# Altium footprint library ES_Pcb.PcbLib: 383 footprints (part 5 of 24)
Each footprint in its own frame and in the unit in brackets; x right, y up, seen from the top. Pads: shape width x height; smd on the part's side, far side on the other; paste and mask are expansions set on the pad; w line width, h text height; cw(c..) or ccw(c..) is an arc to the next point about the centre after c.
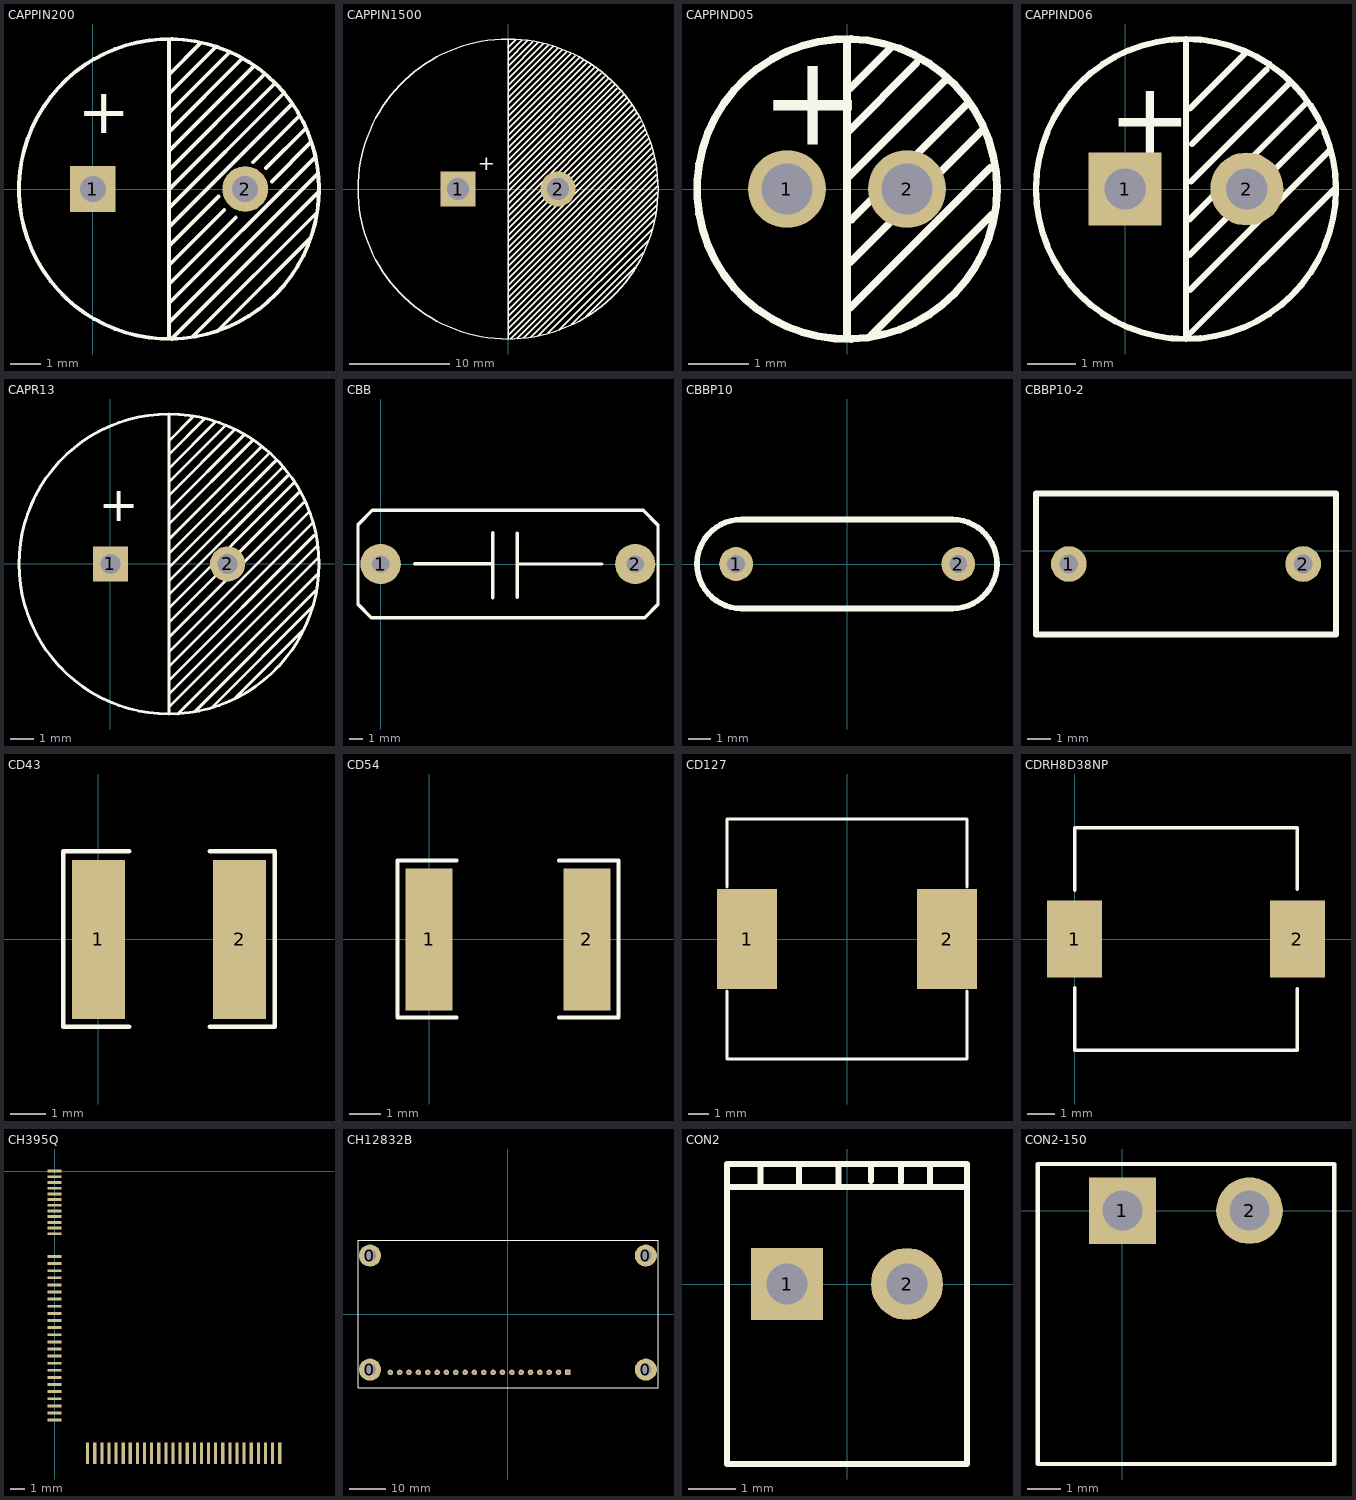
[diagram p4: the footprints below, top view; thin cyan lines are the x and y axes]

## CAPPIN200 [mil]
pads (2):
  rect 60x60 hole 34: 1(0,0)
  round 60 hole 34: 2(200,0)
Top Overlay:
  circle w5: c100,0 r196.85
  lines w5: 100,-175 295.5,20.5 ; 100,-150 291.5,41.5 ; 100,-125 187.5,-37.5 ; 100,-100 172.5,-27.5 ; 100,-75 165,-10 ; 100,-50 261.5,111.5 ; 100,-25 250,125 ; 100,-0.5 239.25,138.75 ; 100,25 225.5,150.5 ; 100,50 211.5,161.5 ; 100,75 195.5,170.5 ; 100,100 179.5,179.5 ; 100,125 161,186 ; 100,150 141.5,191.5 ; 100,195 100,-196 104,-196 296.85,-3.15 296.85,0 ; 131,-194 294.5,-30.5 ; 164,-186 285.5,-64.5 ; 210,35 271,96 ; 227.5,27.5 279.5,79.5 ; 235,10 286.5,61.5
  text "+" at -20,73 h60

## CAPPIN1500 [mm]
pads (2):
  rect 3.5x3.5 hole 2.2: 1(-5,0)
  round 3.5 hole 2.2: 2(5,0)
Top Overlay:
  circle w0.127: c0,0 r15
  lines w0.127: 0,-15 0,15 ; 0,-14.625 14.9,0.275 ; 0,-14 14.962,0.962 ; 0,-13.375 14.825,1.45 ; 0,-12.75 14.8,2.05 ; 0,-12.125 14.713,2.588 ; 0,-11.5 14.6,3.1 ; 0,-10.875 14.5,3.625 ; 0,-10.25 14.375,4.125 ; 0,-9.625 14.225,4.6 ; 0,-9 14.025,5.025 ; 0,-8.375 13.9,5.525 ; 0,-7.75 13.688,5.938 ; 0,-7.125 13.525,6.4 ; 0,-6.5 13.287,6.787 ; 0,-5.875 13.062,7.187 ; 0,-5.25 12.875,7.625 ; 0,-4.625 12.625,8 ; 0,-4 12.412,8.413 ; 0,-3.375 12.075,8.7 ; 0,-2.75 11.837,9.088 ; 0,-2.125 11.575,9.45 ; 0,-1.5 11.25,9.75 ; 0,-0.875 10.943,10.068 ; 0,-0.25 10.667,10.418 ; 0,0.375 10.317,10.692 ; 0,1 10.03,11.03 ; 0,1.6 9.693,11.292 ; 0,2.875 9.03,11.905 ; 0,3.5 8.642,12.143 ; 0,4.125 8.305,12.43 ; 0,4.75 7.88,12.63 ; 0,5.375 7.517,12.892 ; 0,6 7.105,13.105 ; 0,6.625 6.717,13.343 ; 0,7.25 6.28,13.53 ; 0,7.875 5.855,13.73 ; 0,8.5 5.405,13.905 ; 0,9.125 4.968,14.093 ; 0,9.75 4.505,14.255 ; 0,10.375 4.005,14.38 ; 0,11 3.53,14.53 ; 0,11.625 3.03,14.655 ; 0,12.25 2.467,14.717 ; 0,12.875 1.98,14.855 ; 0,13.5 1.397,14.897 ; 0,14.13 0.825,14.955 ; 0.01,2.25 9.347,11.588 ; 0.25,-15 14.925,-0.325 ; 0.875,-14.975 14.925,-0.925 ; 1.55,-14.925 14.863,-1.612 ; 2.25,-14.825 14.788,-2.287 ; 3,-14.7 14.638,-3.062 ; 3.975,-14.45 14.413,-4.012 ; 5.075,-14.125 14.088,-5.112 ; 6.35,-13.575 13.525,-6.4 ; 7.775,-12.8 12.738,-7.838
  text "+" at -3.048,1.854 h1.52

## CAPPIND05 [mm]
pads (2):
  round 1.3 hole 0.85: 1(-1,0) 2(1,0)
Top Overlay:
  circle w0.127: c0,0 r2.5
  lines w0.127: 0,-2.464 0,2.489 ; 0.025,0.203 1.651,1.829 ; 0.025,0.965 1.156,2.095 ; 0.051,-1.981 2.388,0.356 ; 0.051,-1.219 2.235,0.965 ; 0.051,1.676 0.711,2.337 ; 0.076,-0.508 2.019,1.435 ; 0.406,-2.438 2.413,-0.432
  text "+" at -1.448,0.737 h1.52

## CAPPIND06 [mil]
pads (2):
  rect 60x60 hole 34: 1(0,0)
  round 60 hole 34: 2(100,0)
Top Overlay:
  circle w5: c50,0 r123.23
  lines w5: 50,122 50,-122 172.61,0.61 ; 53,-83 167.5,31.5 ; 53,-54 160.5,53.5 ; 53,-25 149,71 ; 53,66 99.5,112.5 ; 54,6 134.5,86.5 ; 55,37 116,98
  text "+" at -14,29 h60

## CAPR13 [mil]
pads (2):
  rect 60x60 hole 34: 1(0,0)
  round 60 hole 34: 2(200,0)
Top Overlay:
  circle w5: c100,0 r255.91
  lines w5: 100,-255.91 100,255.91 ; 100,-244 353.5,9.5 ; 100,-222 352.5,30.5 ; 100,-199 348,49 ; 100,-175 343,68 ; 100,-150 338,88 ; 100,-125 330,105 ; 100,-100 321.5,121.5 ; 100,-75 313,138 ; 100,-52 302.5,150.5 ; 100,-29 293,164 ; 100,-6 282,176 ; 100,18 270.5,188.5 ; 100,42 257.5,199.5 ; 100,68 243,211 ; 100,92 228.5,220.5 ; 100,117 211.5,228.5 ; 100,140 195.5,235.5 ; 100,163 179.5,242.5 ; 100,187 161,248 ; 100,210 141.5,251.5 ; 115,-256 353.5,-17.5 ; 144,-252 350.5,-45.5 ; 174,-244 344.5,-73.5 ; 214,-228 330,-112
  text "+" at -20,73 h60

## CBB [mm]
pads (2):
  round 3 hole 1.3: 1(0,0) 2(19,0)
Top Overlay:
  lines w0.254: 2.55,0.025 8.341,0.025 ; 8.366,-2.54 8.366,2.337 ; 10.195,-2.489 10.195,2.311 ; 10.322,0 16.494,0 ; -1.692,-3.007 -0.699,-4 -0.648,-4 -0.533,-4 6.258,-4 15.529,-4 19.699,-4 20.701,-2.998 20.701,2.896 19.597,4 15.529,4 6.258,4 -0.508,4 -0.613,4 -1.692,2.921 -1.692,-2.997 -1.692,-3.007

## CBBP10 [mm]
pads (2):
  round 1.524 hole 0.8: 1(-5,0) 2(5,0)
Top Overlay:
  lines w0.254: -4.765,-2 cw(c-4.76,0) -4.746,2 4.746,2 cw(c4.742,0) 4.727,-2 ; -4.746,-2 4.746,-2

## CBBP10-2 [mil]
pads (2):
  round 60 hole 31.5: 1(227.15,-22) 2(620.85,-22)
Top Overlay:
  lines w10: 172.03,-140.11 675.97,-140.11 675.97,96.11 172.03,96.11 172.03,-140.11

## CD43 [mm]
pads (2):
  rect 1.5x4.5 smd: 1(0,0) 2(4,0)
Top Overlay:
  lines w0.127: 0.875,-2.475 -1,-2.475 -1,2.5 0.875,2.5 ; 3.15,-2.475 5,-2.475 5,2.5 3.15,2.5

## CD54 [mm]
pads (2):
  rect 1.5x4.5 smd: 1(0,0) 2(5,0)
Top Overlay:
  lines w0.127: 0.875,-2.475 -1,-2.475 -1,2.5 0.875,2.5 ; 4.115,-2.475 5.994,-2.475 5.994,2.5 4.115,2.5

## CD127 [mm]
pads (2):
  rect 3x5 smd: 1(-5,0) 2(5,0)
Top Overlay:
  lines w0.127: -6,-2.6 -6,-6 6,-6 6,-2.6 ; -6,2.6 -6,6 6,6 6,2.6

## CDRH8D38NP [mm]
pads (2):
  rect 2x2.8 smd: 1(0,0) 2(8.1,0)
Top Overlay:
  lines w0.127: 0,-1.778 0,-4.05 8.1,-4.05 8.1,-1.806 ; 0,1.778 0,4.05 8.1,4.05 8.1,1.806

## CH395Q [mm]
pads (64):
  rect 1x0.2 smd: 1(0,0) 2(0,-0.4) 3(0,-0.8) 4(0,-1.2) 5(0,-1.6) 6(0,-2) 7(0,-2.4) 8(0,-2.8) 9(0,-3.2) 10(0,-3.6) 11(0,-4) 12(0,-4.4) 13(0,-6) 14(0,-6.5) 15(0,-7) 16(0,-7.5) 17(0,-8) 18(0,-8.5) 19(0,-9) 20(0,-9.5) 21(0,-10) 22(0,-10.5) 23(0,-11) 24(0,-11.5) 25(0,-12) 26(0,-12.5) 27(0,-13) 28(0,-13.5) 29(0,-14) 30(0,-14.5) 31(0,-15) 32(0,-15.5) 33(0,-16) 34(0,-16.5) 35(0,-17) 36(0,-17.5)
  rect 0.22x1.524 smd: 37(2.323,-19.823) 38(2.823,-19.823) 39(3.323,-19.823) 40(3.823,-19.823) 41(4.323,-19.823) 42(4.823,-19.823) 43(5.323,-19.823) 44(5.823,-19.823) 45(6.323,-19.823) 46(6.823,-19.823) 47(7.323,-19.823) 48(7.823,-19.823) 49(8.323,-19.823) 50(8.823,-19.823) 51(9.323,-19.823) 52(9.823,-19.823) 53(10.323,-19.823) 54(10.823,-19.823) 55(11.323,-19.823) 56(11.823,-19.823) 57(12.323,-19.823) 58(12.823,-19.823) 59(13.323,-19.823) 60(13.823,-19.823) 61(14.323,-19.823) 62(14.823,-19.823) 63(15.323,-19.823) 64(15.823,-19.823)

## CH12832B [mil]
pads (24):
  round 236.22 hole 125.98: 0(-1476.38,-595.24) 0(-1476.38,625.24) 0(1476.38,-595.24) 0(1476.38,625.24)
  rect 60x60 hole 34: 1(641.73,-625.24)
  round 60 hole 34: 2(541.73,-625.24) 3(441.73,-625.24) 4(341.73,-625.24) 5(241.73,-625.24) 6(141.73,-625.24) 7(41.73,-625.24) 8(-58.27,-625.24) 9(-158.27,-625.24) 10(-258.27,-625.24) 11(-358.27,-625.24) 12(-458.27,-625.24) 13(-558.27,-625.24) 14(-658.27,-625.24) 15(-758.27,-625.24) 16(-858.27,-625.24) 17(-958.27,-625.24) 18(-1058.27,-625.24) 19(-1158.27,-625.24) 20(-1258.27,-625.24)
Top Overlay:
  lines w5: -1604.33,-787.4 -1604.33,787.4 1606.3,787.4 1606.3,-787.4 -1604.33,-787.4

## CON2 [mil]
pads (2):
  rect 60x60 hole 34: 1(-50,0)
  round 60 hole 34: 2(50,0)
Top Overlay:
  lines w5: -100,81 97,81 ; -72,83 -72,100 ; -40,82 -40,100 ; -7,81 -7,99 ; 20,86 20,100 ; 45,85 45,100 ; 69,84 69,100 ; -100,-150 -100,100 100,100 100,-150 -100,-150

## CON2-150 [mm]
pads (2):
  rect 2x2 hole 1.2: 1(0,0)
  round 2 hole 1.2: 2(3.81,0)
Top Overlay:
  lines w0.127: -2.545,-7.6 6.355,-7.6 6.355,1.4 -2.545,1.4 -2.545,-7.6